# Altium schematic symbol library SIM300DZ.SchLib: 1 symbol
Pins are listed as number, name and electrical type; pins without a type are passive.

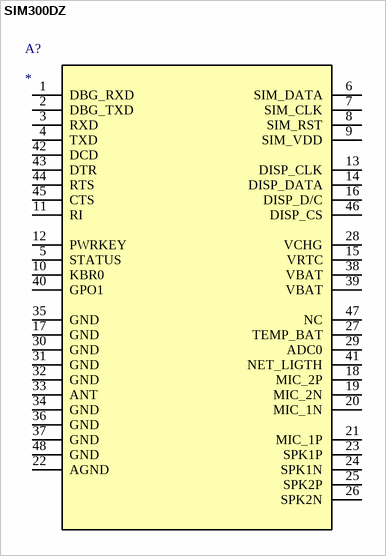
[diagram p0: symbol SIM300DZ]

## SIM300DZ
designator A?
GSM/GPRS MODULE; Supplier 1: Farnell; Supplier Part Number 1: 1678286
pins: 1 DBG_RXD, 2 DBG_TXD, 3 RXD, 4 TXD, 5 STATUS, 6 SIM_DATA, 7 SIM_CLK, 8 SIM_RST, 9 SIM_VDD, 10 KBR0, 11 RI, 12 PWRKEY, 13 DISP_CLK, 14 DISP_DATA, 15 VRTC, 16 DISP_D/C, 17 GND, 18 MIC_2P, 19 MIC_2N, 20 MIC_1N, 21 MIC_1P, 22 AGND, 23 SPK1P, 24 SPK1N, 25 SPK2P, 26 SPK2N, 27 TEMP_BAT, 28 VCHG, 29 ADC0, 30 GND, 31 GND, 32 GND, 33 ANT, 34 GND, 35 GND, 36 GND, 37 GND, 38 VBAT, 39 VBAT, 40 GPO1, 41 NET_LIGTH, 42 DCD, 43 DTR, 44 RTS, 45 CTS, 46 DISP_CS, 47 NC, 48 GND